# Altium schematic symbol library amphenol-RJMG1B.Schlib: 1 symbol
Pins are listed as number, name and electrical type; pins without a type are passive.

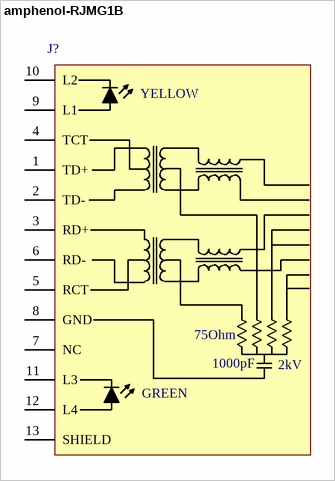
[diagram p0: symbol amphenol-RJMG1B]

## amphenol-RJMG1B
designator J?  (value not drawn)
Amphenol RJMG1B series Ethernet "Mag Jack"
pins: 1 TD+, 2 TD-, 3 RD+, 4 TCT, 5 RCT, 6 RD-, 7 NC, 8 GND, 9 L1, 10 L2, 11 L3, 12 L4, 13 SHIELD
text: YELLOW; 75Ohm; 1000pF; 2kV; GREEN